# EAGLE library part AK130/14 (library PTR_AK130)
ANSCHLUSSKLEMME AK130 (14POLIG)
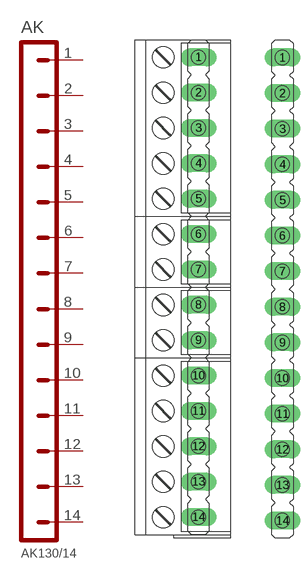
[diagram p8: symbol with the pads of AK14; footprints AK14, STL14]

Designator prefix AK

## AK130/14  [AK14]
1  P$1
2  P$2
3  P$3
4  P$4
5  P$5
6  P$6
7  P$7
8  P$8
9  P$9
10  P$10
11  P$11
12  P$12
13  P$13
14  P$14

## AK130/14_STL  [STL14]
Pads as for AK14

## Footprint AK14 (pad centres in mm)
AK130 (14POLIG) 2x AK130/2-5.0-GRAU 2x AK130/5-5.0-GRAU STL130/24-5.0-V-SCHWARZ
drill 1.5 pad 2.54 long: 1 0,32.5; 2 0,27.5; 3 0,22.5; 4 0,17.5; 5 0,12.5; 6 0,7.5; 7 0,2.5; 8 0,-2.5; 9 0,-7.5; 10 0,-12.5; 11 0,-17.5; 12 0,-22.5; 13 0,-27.5; 14 0,-32.5

## Footprint STL14 (pad centres in mm)
STL130 (14POLIG) STL130/24-5.0-V-SCHWARZ
drill 1.5 pad 2.54 long: 1 0,32.5; 2 0,27.5; 3 0,22.5; 4 0,17.5; 5 0,12.5; 6 0,7.5; 7 0,2.5; 8 0,-2.5; 9 0,-7.5; 10 0,-12.5; 11 0,-17.5; 12 0,-22.5; 13 0,-27.5; 14 0,-32.5